# Altium schematic symbol library SCH - ARM CORTEX - STM STM32L052T(6-8)Yx.SchLib: 1 symbol
Pins are listed as number, name and electrical type; pins without a type are passive.

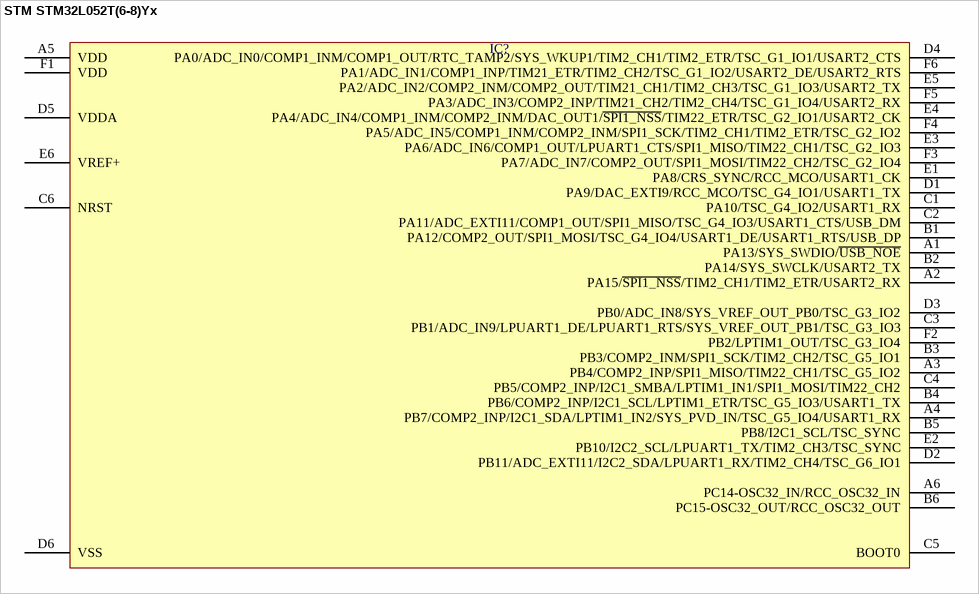
[diagram p0: symbol STM STM32L052T(6-8)Yx]

## STM STM32L052T(6-8)Yx
designator IC?  (value not drawn)
pins: A1 PA13/SYS_SWDIO/~{USB_NOE}, A2 PA15/~{SPI1_NSS}/TIM2_CH1/TIM2_ETR/USART2_RX, A3 PB4/COMP2_INP/SPI1_MISO/TIM22_CH1/TSC_G5_IO2, A4 PB7/COMP2_INP/I2C1_SDA/LPTIM1_IN2/SYS_PVD_IN/TSC_G5_IO4/USART1_RX, A5 VDD, A6 PC14-OSC32_IN/RCC_OSC32_IN, B1 PA12/COMP2_OUT/SPI1_MOSI/TSC_G4_IO4/USART1_DE/USART1_RTS/USB_DP, B2 PA14/SYS_SWCLK/USART2_TX, B3 PB3/COMP2_INM/SPI1_SCK/TIM2_CH2/TSC_G5_IO1, B4 PB6/COMP2_INP/I2C1_SCL/LPTIM1_ETR/TSC_G5_IO3/USART1_TX, B5 PB8/I2C1_SCL/TSC_SYNC, B6 PC15-OSC32_OUT/RCC_OSC32_OUT, C1 PA10/TSC_G4_IO2/USART1_RX, C2 PA11/ADC_EXTI11/COMP1_OUT/SPI1_MISO/TSC_G4_IO3/USART1_CTS/USB_DM, C3 PB1/ADC_IN9/LPUART1_DE/LPUART1_RTS/SYS_VREF_OUT_PB1/TSC_G3_IO3, C4 PB5/COMP2_INP/I2C1_SMBA/LPTIM1_IN1/SPI1_MOSI/TIM22_CH2, C5 BOOT0, C6 NRST, D1 PA9/DAC_EXTI9/RCC_MCO/TSC_G4_IO1/USART1_TX, D2 PB11/ADC_EXTI11/I2C2_SDA/LPUART1_RX/TIM2_CH4/TSC_G6_IO1, D3 PB0/ADC_IN8/SYS_VREF_OUT_PB0/TSC_G3_IO2, D4 PA0/ADC_IN0/COMP1_INM/COMP1_OUT/RTC_TAMP2/SYS_WKUP1/TIM2_CH1/TIM2_ETR/TSC_G1_IO1/USART2_CTS, D5 VDDA, D6 VSS, E1 PA8/CRS_SYNC/RCC_MCO/USART1_CK, E2 PB10/I2C2_SCL/LPUART1_TX/TIM2_CH3/TSC_SYNC, E3 PA6/ADC_IN6/COMP1_OUT/LPUART1_CTS/SPI1_MISO/TIM22_CH1/TSC_G2_IO3, E4 PA4/ADC_IN4/COMP1_INM/COMP2_INM/DAC_OUT1/~{SPI1_NSS}/TIM22_ETR/TSC_G2_IO1/USART2_CK, E5 PA2/ADC_IN2/COMP2_INM/COMP2_OUT/TIM21_CH1/TIM2_CH3/TSC_G1_IO3/USART2_TX, E6 VREF+, F1 VDD, F2 PB2/LPTIM1_OUT/TSC_G3_IO4, F3 PA7/ADC_IN7/COMP2_OUT/SPI1_MOSI/TIM22_CH2/TSC_G2_IO4, F4 PA5/ADC_IN5/COMP1_INM/COMP2_INM/SPI1_SCK/TIM2_CH1/TIM2_ETR/TSC_G2_IO2, F5 PA3/ADC_IN3/COMP2_INP/TIM21_CH2/TIM2_CH4/TSC_G1_IO4/USART2_RX, F6 PA1/ADC_IN1/COMP1_INP/TIM21_ETR/TIM2_CH2/TSC_G1_IO2/USART2_DE/USART2_RTS